# EAGLE library part 8PIN_CABLE_SOLDER (library BEEP)
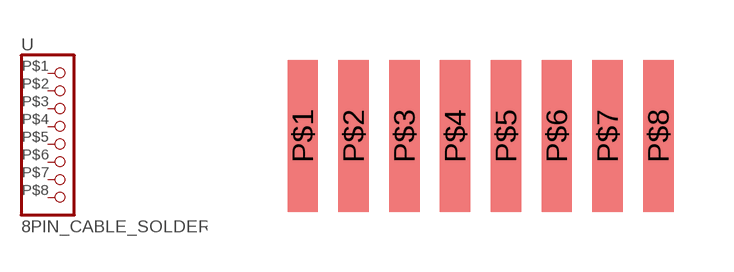
[diagram p16: symbol with the pads of 8PIN_CABLE_SOLDER; footprint 8PIN_CABLE_SOLDER]

Designator prefix -

## 8PIN_CABLE_SOLDER  [8PIN_CABLE_SOLDER]
P$1  1  pas
P$2  2  pas
P$3  3  pas
P$4  4  pas
P$5  5  pas
P$6  6  pas
P$7  7  pas
P$8  8  pas

## Footprint 8PIN_CABLE_SOLDER (pad centres in mm)
smd 0.762 x 3.81: P$1 -3.81,0; P$2 -2.54,0; P$3 -1.27,0; P$4 0,0; P$5 1.27,0; P$6 2.54,0; P$7 3.81,0; P$8 5.08,0